# Altium footprint library PJ-067B.PcbLib: 1 footprints
Each footprint in its own frame and in the unit in brackets; x right, y up, seen from the top. Pads: shape width x height; smd on the part's side, far side on the other; paste and mask are expansions set on the pad; w line width, h text height; cw(c..) or ccw(c..) is an arc to the next point about the centre after c.
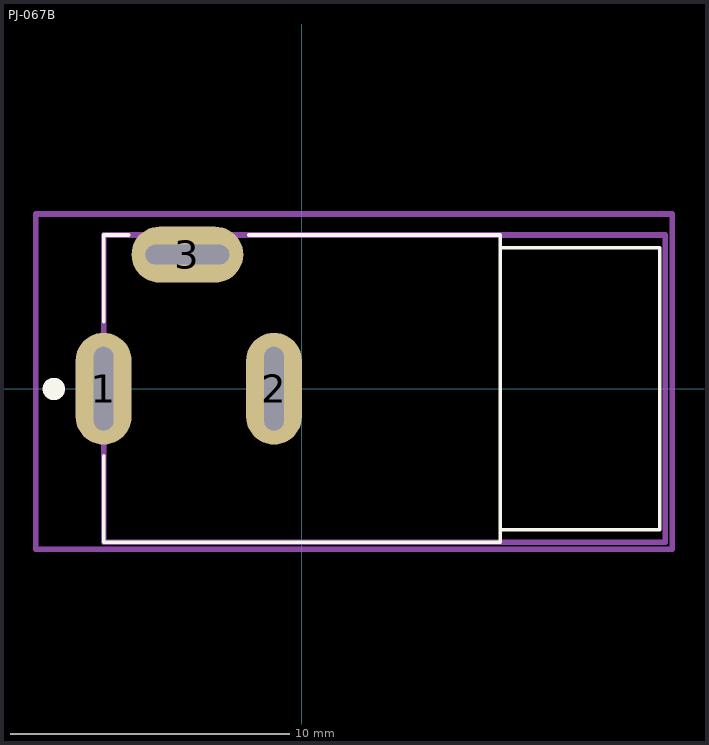
[diagram p0: the footprint, top view; thin cyan lines are the x and y axes]

## PJ-067B [mm]
pads (3):
  oval 2x4 hole 0.7 slot 3 at 90 deg: 1(-7.1,0) 2(-1,0)
  oval 4x2 hole 0.7 slot 3 at 0 deg: 3(-4.1,4.8)
Top Overlay:
  circle w0.4: c-8.88,-0.01 r0.2
  lines w0.127: -7.1,-2.4 -7.1,-5.5 7.1,-5.5 7.1,-5.05 ; -7.1,2.4 -7.1,5.5 -6.2,5.5 ; -1.9,5.5 7.1,5.5 7.1,5.05 ; 7.1,-5.05 7.1,5.05 ; 7.1,-5.05 12.8,-5.05 12.8,5.05 7.1,5.05
Mechanical 1:
  lines w0: -7.45,-1.15 ccw(c-7.1,-1.15) -7.1,-1.5 ccw(c-7.1,-1.15) -6.75,-1.15 -6.75,1.15 ccw(c-7.1,1.15) -7.1,1.5 ccw(c-7.1,1.15) -7.45,1.15 -7.45,-1.15 ; -5.6,4.8 ccw(c-5.25,4.8) -5.25,4.45 -2.95,4.45 ccw(c-2.95,4.8) -2.6,4.8 ccw(c-2.95,4.8) -2.95,5.15 -5.25,5.15 ccw(c-5.25,4.8) -5.6,4.8 ; -1.35,-1.15 ccw(c-1,-1.15) -1,-1.5 ccw(c-1,-1.15) -0.65,-1.15 -0.65,1.15 ccw(c-1,1.15) -1,1.5 ccw(c-1,1.15) -1.35,1.15 -1.35,-1.15
Top Assembly:
  lines w0.2: -7,5.5 -7.1,5.5 ; -7.1,5.5 -7.1,-5.5 13,-5.5 13,5.5 -7.1,5.5
Top Courtyard:
  lines w0.2: -9.525,-5.75 13.25,-5.75 13.25,6.25 -9.525,6.25 -9.525,0.381 -9.525,-5.75
3D body "CUI_PJ-067B.step": height 12.2, standoff -2.9, extent -7.1,-5.5 12.95,5.5